# Altium schematic symbol library 6 Pin 100 mil Vertical Header - Through Hole.SchLib: 1 symbol
Pins are listed as number, name and electrical type; pins without a type are passive.

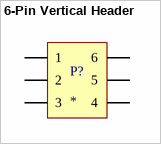
[diagram p0: symbol 6-Pin Vertical Header]

## 6-Pin Vertical Header
designator P?
Manufacturer: Sullins; Manufacturer ID: PPPC032LFBN-RC
footprint 6-Pin Vertical Header
pins: 1, 2, 3, 4, 5, 6